# EAGLE library part ZIF_SOCKET_QFN_5_X_5 (library harrison)
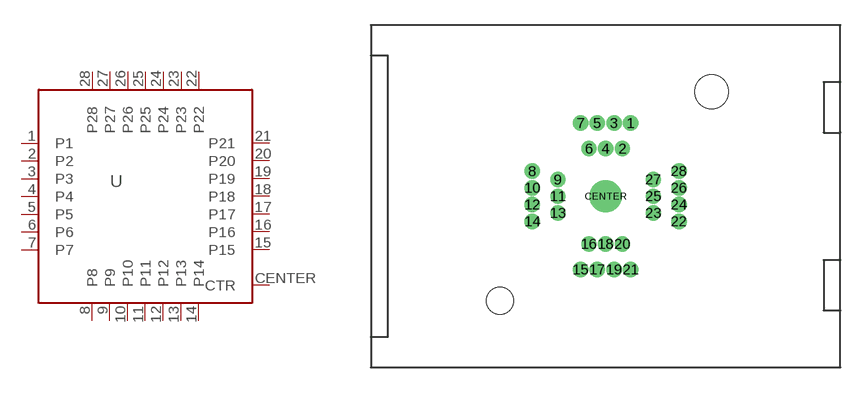
[diagram p31: symbol with the pads of ZIF_QFN28_5_X_5; footprint ZIF_QFN28_5_X_5]

Designator prefix U

## ZIF_SOCKET_QFN_5_X_5  [ZIF_QFN28_5_X_5]
1  P1
2  P2
3  P3
4  P4
5  P5
6  P6
7  P7
8  P8
9  P9
10  P10
11  P11
12  P12
13  P13
14  P14
15  P15
16  P16
17  P17
18  P18
19  P19
20  P20
21  P21
22  P22
23  P23
24  P24
25  P25
26  P26
27  P27
28  P28
CENTER  CTR

## Footprint ZIF_QFN28_5_X_5 (pad centres in mm)
drill 0.41 pad 0.813: 1 1.5,4.37; 2 1,2.845; 3 0.5,4.37; 4 0,2.845; 5 -0.5,4.37; 6 -1,2.845; 7 -1.5,4.37; 8 -4.37,1.5; 9 -2.845,1; 10 -4.37,0.5; 11 -2.845,0; 12 -4.37,-0.5; 13 -2.845,-1; 14 -4.37,-1.5; 15 -1.5,-4.37; 16 -1,-2.845; 17 -0.5,-4.37; 18 0,-2.845; 19 0.5,-4.37; 20 1,-2.845; 21 1.5,-4.37; 22 4.37,-1.5; 23 2.845,-1; 24 4.37,-0.5; 25 2.845,0; 26 4.37,0.5; 27 2.845,1; 28 4.37,1.5
drill 1.02 pad 1.93: CENTER 0,0
hole 1.6 at -6.31,-6.23
hole 2 at 6.31,6.23